# Altium footprint library HUB_WMBUS_RF_02.pcblib: 1 footprints
Each footprint in its own frame and in the unit in brackets; x right, y up, seen from the top. Pads: shape width x height; smd on the part's side, far side on the other; paste and mask are expansions set on the pad; w line width, h text height; cw(c..) or ccw(c..) is an arc to the next point about the centre after c.
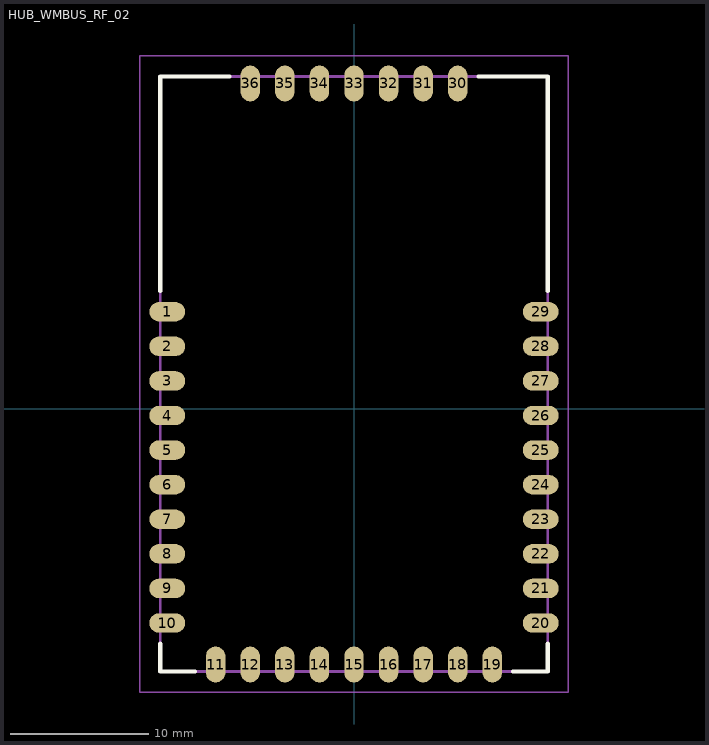
[diagram p0: the footprint, top view; thin cyan lines are the x and y axes]

## HUB_WMBUS_RF_02 [mm]
pads (36):
  oval 2.6x1.4 smd: 1(-13.5,7) 2(-13.5,4.5) 3(-13.5,2) 4(-13.5,-0.5) 5(-13.5,-3) 6(-13.5,-5.5) 7(-13.5,-8) 8(-13.5,-10.5) 9(-13.5,-13) 10(-13.5,-15.5) 20(13.5,-15.5) 21(13.5,-13) 22(13.5,-10.5) 23(13.5,-8) 24(13.5,-5.5) 25(13.5,-3) 26(13.5,-0.5) 27(13.5,2) 28(13.5,4.5) 29(13.5,7)
  oval 1.4x2.6 smd: 11(-10,-18.5) 12(-7.5,-18.5) 13(-5,-18.5) 14(-2.5,-18.5) 15(0,-18.5) 16(2.5,-18.5) 17(5,-18.5) 18(7.5,-18.5) 19(10,-18.5) 30(7.5,23.5) 31(5,23.5) 32(2.5,23.5) 33(0,23.5) 34(-2.5,23.5) 35(-5,23.5) 36(-7.5,23.5)
Top Overlay:
  lines w0.305: -14,-17 -14,-19 -11.5,-19 ; -14,8.5 -14,24 -9,24 ; 9,24 14,24 14,8.5 ; 11.5,-19 14,-19 14,-17
Mechanical 13:
  lines w0.2: -14,-19 14,-19 14,24 -14,24 -14,-19
Mechanical 15:
  lines w0.1: -15.5,-20.5 -15.5,25.5 15.5,25.5 15.5,-20.5 -15.5,-20.5
Mechanical 17:
  text "'.Designator'" at -11,-1 h2
Mechanical 19:
  text "'.Comment'" at -11,-1 h2
3D body "hub-wmbus-module-rf-02_z_ekranem_3_5mm.step": height 5.2, standoff 0.1, extent -14,-19 14,24